# Altium footprint library LM1040.PcbLib: 1 footprints
Each footprint in its own frame and in the unit in brackets; x right, y up, seen from the top. Pads: shape width x height; smd on the part's side, far side on the other; paste and mask are expansions set on the pad; w line width, h text height; cw(c..) or ccw(c..) is an arc to the next point about the centre after c.
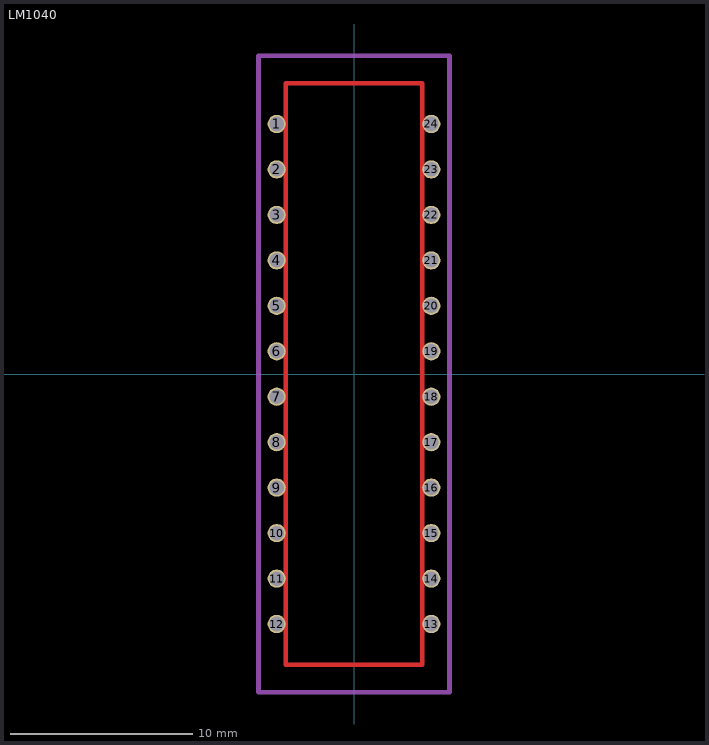
[diagram p0: the footprint, top view; thin cyan lines are the x and y axes]

## LM1040 [mm]
pads (24):
  round 1 hole 0.8: 1(-4.25,13.75) 2(-4.25,11.25) 3(-4.25,8.75) 4(-4.25,6.25) 5(-4.25,3.75) 6(-4.25,1.25) 7(-4.25,-1.25) 8(-4.25,-3.75) 9(-4.25,-6.25) 10(-4.25,-8.75) 11(-4.25,-11.25) 12(-4.25,-13.75) 13(4.25,-13.75) 14(4.25,-11.25) 15(4.25,-8.75) 16(4.25,-6.25) 17(4.25,-3.75) 18(4.25,-1.25) 19(4.25,1.25) 20(4.25,3.75) 21(4.25,6.25) 22(4.25,8.75) 23(4.25,11.25) 24(4.25,13.75)
Top Layer:
  lines w0.254: -3.75,-16 -3.75,16 3.75,16 3.75,-16 -3.75,-16
Mechanical 1:
  lines w0.254: -5.25,-17.5 -5.25,17.5 5.25,17.5 5.25,-17.5 -5.25,-17.5